# Altium schematic symbol library zxevo.SchLib: 57 symbols
Pins are listed as number, name and electrical type; pins without a type are passive.

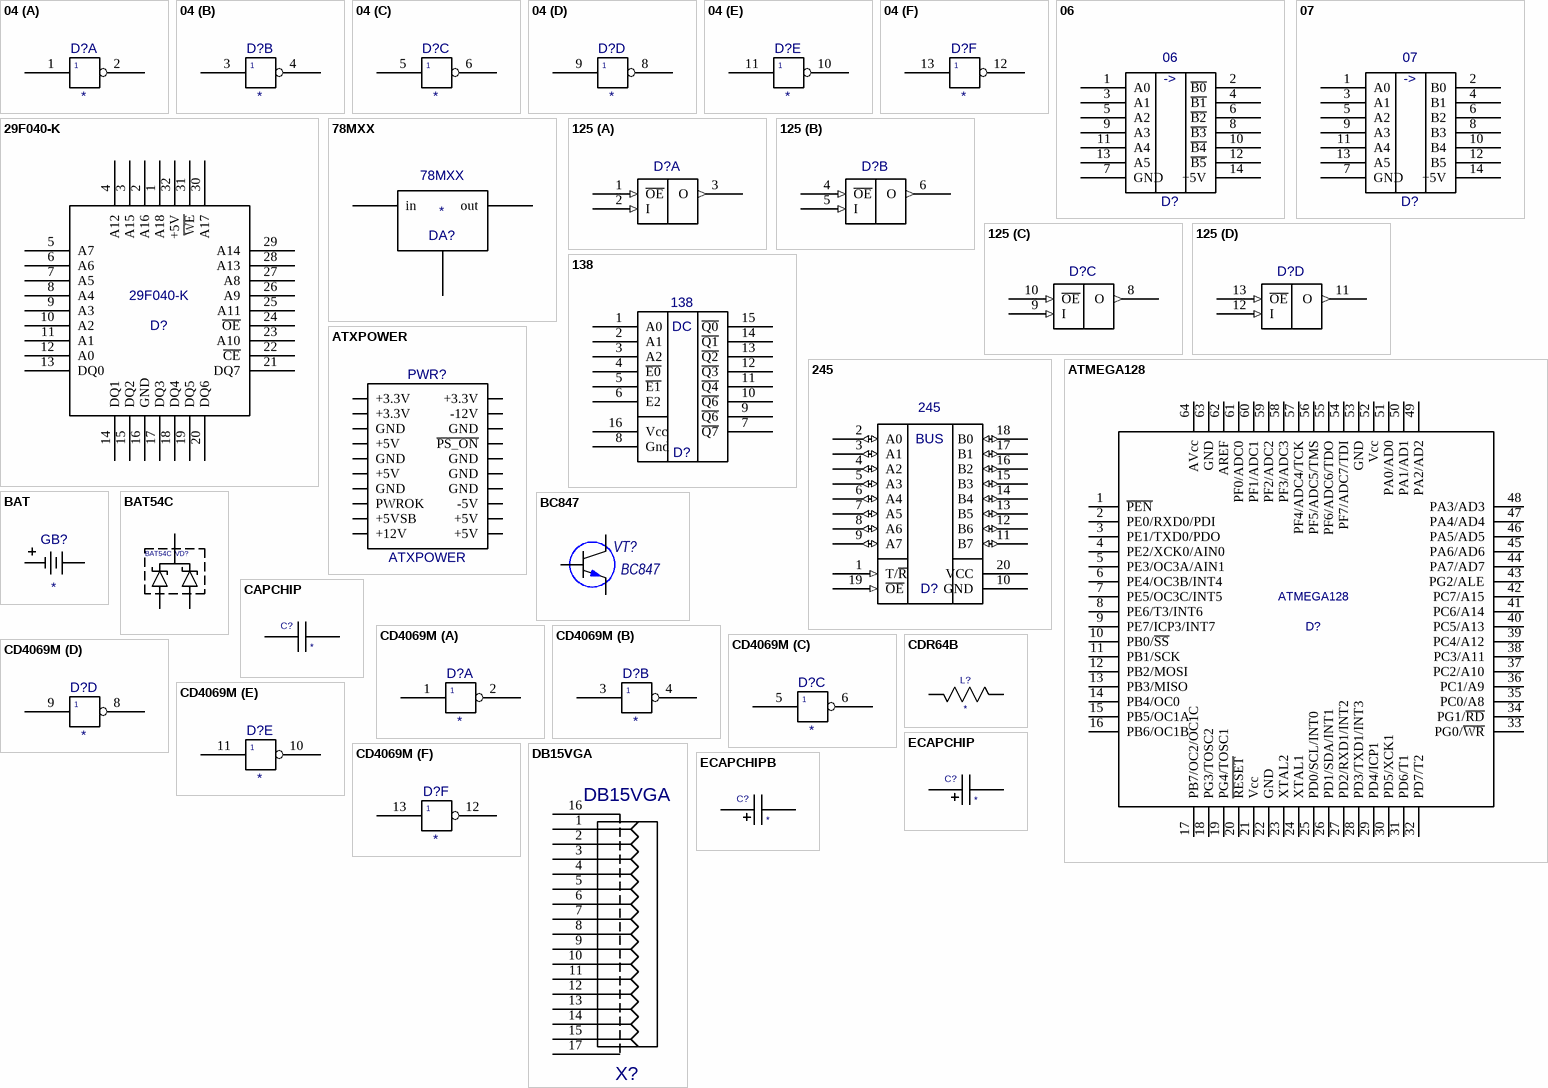
[diagram p0: symbols 04 to ECAPCHIPB]

## 04
designator D?  (value not drawn)
Value: *
footprint SO14
pins on every part: 7 GND (power) hidden, 14 +5v (power) hidden
part A pins: 1, 2
part B pins: 3, 4
part C pins: 5, 6
part D pins: 8, 9
part E pins: 10, 11
part F pins: 12, 13

## 06
designator D?
Value: *
footprint SO14
pins: 1 A0, 2 ~{B0}, 3 A1, 4 ~{B1}, 5 A2, 6 ~{B2}, 7 GND, 8 ~{B3}, 9 A3, 10 ~{B4}, 11 A4, 12 ~{B5}, 13 A5, 14 +5V
text: ->

## 07
designator D?
Value: *
footprint SO14
pins: 1 A0, 2 B0, 3 A1, 4 B1, 5 A2, 6 B2, 7 GND, 8 B3, 9 A3, 10 B4, 11 A4, 12 B5, 13 A5, 14 +5V
text: ->

## 29F040-K
designator D?
Value: *
footprint PLCC32
pins: 1 A18, 2 A16, 3 A15, 4 A12, 5 A7, 6 A6, 7 A5, 8 A4, 9 A3, 10 A2, 11 A1, 12 A0, 13 DQ0, 14 DQ1, 15 DQ2, 16 GND, 17 DQ3, 18 DQ4, 19 DQ5, 20 DQ6, 21 DQ7, 22 ~{CE}, 23 A10, 24 ~{OE}, 25 A11, 26 A9, 27 A8, 28 A13, 29 A14, 30 A17, 31 ~{WE}, 32 +5V

## 78MXX
designator DA?
Value: *
footprint DPAK
pins: 1 in, 2, 3 out

## 125
designator D?  (value not drawn)
Value: *
footprint SO14
pins on every part: 7 GND (power) hidden, 14 +5v (power) hidden
part A pins: 1 ~{OE} (in), 2 I (in), 3 O (out)
part B pins: 4 ~{OE} (in), 5 I (in), 6 O (out)
part C pins: 8 O (out), 9 I (in), 10 ~{OE} (in)
part D pins: 11 O (out), 12 I (in), 13 ~{OE} (in)

## 138
designator D?
Value: *
footprint SO16
pins: 1 A0, 2 A1, 3 A2, 4 ~{E0}, 5 ~{E1}, 6 E2, 7 ~{Q7}, 8 Gnd, 9 ~{Q6}, 10 ~{Q6}, 11 ~{Q4}, 12 ~{Q3}, 13 ~{Q2}, 14 ~{Q1}, 15 ~{Q0}, 16 Vcc
text: DC

## 245
designator D?
Value: *
footprint SOL20
pins: 1 T/~{R} (in), 2 A0 (io), 3 A1 (io), 4 A2 (io), 5 A3 (io), 6 A4 (io), 7 A5 (io), 8 A6 (io), 9 A7 (io), 10 GND (power), 11 B7 (io), 12 B6 (io), 13 B5 (io), 14 B4 (io), 15 B3 (io), 16 B2 (io), 17 B1 (io), 18 B0 (io), 19 ~{OE} (in), 20 VCC (power)
text: BUS

## ATMEGA128
designator D?
Value: *
footprint TQFP64X8
pins: 1 ~{PEN}, 2 PE0/RXD0/PDI, 3 PE1/TXD0/PDO, 4 PE2/XCK0/AIN0, 5 PE3/OC3A/AIN1, 6 PE4/OC3B/INT4, 7 PE5/OC3C/INT5, 8 PE6/T3/INT6, 9 PE7/ICP3/INT7, 10 PB0/~{SS}, 11 PB1/SCK, 12 PB2/MOSI, 13 PB3/MISO, 14 PB4/OC0, 15 PB5/OC1A, 16 PB6/OC1B, 17 PB7/OC2/OC1C, 18 PG3/TOSC2, 19 PG4/TOSC1, 20 ~{RESET}, 21 Vcc, 22 GND, 23 XTAL2, 24 XTAL1, 25 PD0/SCL/INT0, 26 PD1/SDA/INT1, 27 PD2/RXD1/INT2, 28 PD3/TXD1/INT3, 29 PD4/ICP1, 30 PD5/XCK1, 31 PD6/T1, 32 PD7/T2, 33 PG0/~{WR}, 34 PG1/~{RD}, 35 PC0/A8, 36 PC1/A9, 37 PC2/A10, 38 PC3/A11, 39 PC4/A12, 40 PC5/A13, 41 PC6/A14, 42 PC7/A15, 43 PG2/ALE, 44 PA7/AD7, 45 PA6/AD6, 46 PA5/AD5, 47 PA4/AD4, 48 PA3/AD3, 49 PA2/AD2, 50 PA1/AD1, 51 PA0/AD0, 52 Vcc, 53 GND, 54 PF7/ADC7/TDI, 55 PF6/ADC6/TDO, 56 PF5/ADC5/TMS, 57 PF4/ADC4/TCK, 58 PF3/ADC3, 59 PF2/ADC2, 60 PF1/ADC1, 61 PF0/ADC0, 62 AREF, 63 GND, 64 AVcc

## ATXPOWER
designator PWR?
Manufacturer: TE; Model: 2-1775099-7; Value: *
footprint ATXPOWER
pins: 1 +3.3V, 2 +3.3V, 3 GND, 4 +5V, 5 GND, 6 +5V, 7 GND, 8 PWROK, 9 +5VSB, 10 +12V, 11 +3.3V, 12 -12V, 13 GND, 14 ~{PS_ON}, 15 GND, 16 GND, 17 GND, 18 -5V, 19 +5V, 20 +5V

## BAT
designator GB?  (value not drawn)
Value: *
footprint BAT
pins: 1 PLUS, 2 MINUS

## BAT54C
designator VD?
Value: *
footprint SOT-23
pins: 1, 2, 3

## BC847
designator VT?
Value: *
footprint SOT-23
pins: 1 base, 2 emitter, 3 collector

## CAPCHIP
designator C?  (value not drawn)
Value: *
footprint C-CHIP
pins: 1, 2

## CD4069M
designator D?  (value not drawn)
Value: *
footprint SO14
pins on every part: 7 GND (power) hidden, 14 +5v (power) hidden
part A pins: 1, 2
part B pins: 3, 4
part C pins: 5, 6
part D pins: 8, 9
part E pins: 10, 11
part F pins: 12, 13

## CDR64B
designator L?  (value not drawn)
Value: *
footprint CDR64B
pins: 1, 2

## DB15VGA
designator X?
Value: *
footprint DB15VGA
pins: 1, 2, 3, 4, 5, 6, 7, 8, 9, 10, 11, 12, 13, 14, 15, 16, 17

## ECAPCHIP
designator C?  (value not drawn)
Value: *
footprint EC-CHIP
pins: 1, 2

## ECAPCHIPB
designator C?  (value not drawn)
Value: *
footprint EC-CHIPB
pins: 1, 2

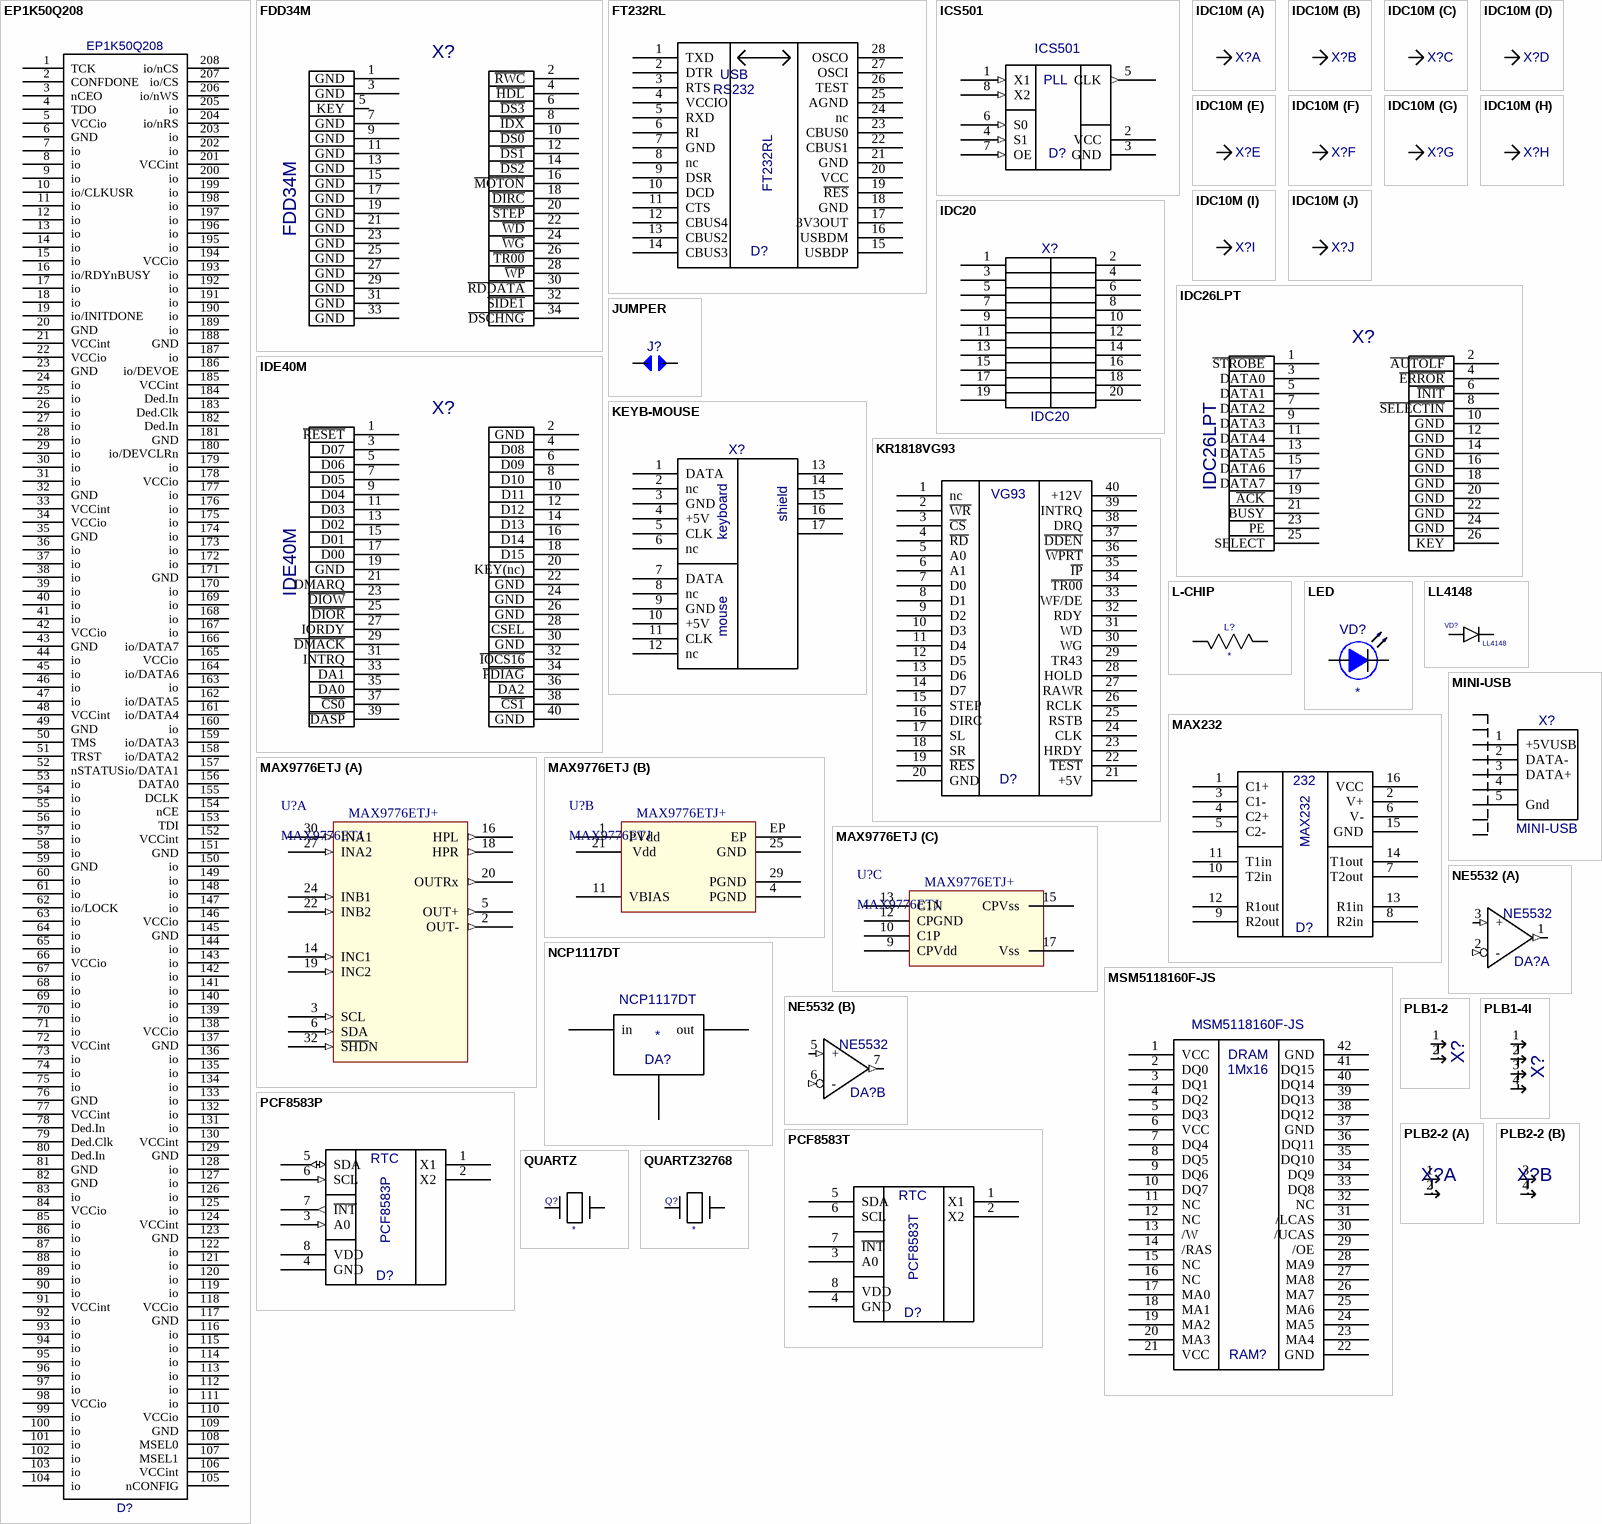
[diagram p1: symbols EP1K50Q208 to QUARTZ32768]

## EP1K50Q208
designator D?
Value: *
footprint PQFP208X5
pins: 1 TCK, 2 CONFDONE, 3 nCEO, 4 TDO, 5 VCCio, 6 GND, 7 io, 8 io, 9 io, 10 io/CLKUSR, 11 io, 12 io, 13 io, 14 io, 15 io, 16 io/RDYnBUSY, 17 io, 18 io, 19 io/INITDONE, 20 GND, 21 VCCint, 22 VCCio, 23 GND, 24 io, 25 io, 26 io, 27 io, 28 io, 29 io, 30 io, 31 io, 32 GND, 33 VCCint, 34 VCCio, 35 GND, 36 io, 37 io, 38 io, 39 io, 40 io, 41 io, 42 VCCio, 43 GND, 44 io, 45 io, 46 io, 47 io, 48 VCCint, 49 GND, 50 TMS, 51 TRST, 52 nSTATUS, 53 io, 54 io, 55 io, 56 io, 57 io, 58 io, 59 GND, 60 io, 61 io, 62 io/LOCK, 63 io, 64 io, 65 io, 66 VCCio, 67 io, 68 io, 69 io, 70 io, 71 io, 72 VCCint, 73 io, 74 io, 75 io, 76 GND, 77 VCCint, 78 Ded.In, 79 Ded.Clk, 80 Ded.In, 81 GND, 82 GND, 83 io, 84 VCCio, 85 io, 86 io, 87 io, 88 io, 89 io, 90 io, 91 VCCint, 92 io, 93 io, 94 io, 95 io, 96 io, 97 io, 98 VCCio, 99 io, 100 io, 101 io, 102 io, 103 io, 104 io, 105 nCONFIG, 106 VCCint, 107 MSEL1, 108 MSEL0, 109 GND, 110 VCCio, 111 io, 112 io, 113 io, 114 io, 115 io, 116 io, 117 GND, 118 VCCio, 119 io, 120 io, 121 io, 122 io, 123 GND, 124 VCCint, 125 io, 126 io, 127 io, 128 io, 129 GND, 130 VCCint, 131 io, 132 io, 133 io, 134 io, 135 io, 136 io, 137 GND, 138 VCCio, 139 io, 140 io, 141 io, 142 io, 143 io, 144 io, 145 GND, 146 VCCio, 147 io, 148 io, 149 io, 150 io, 151 GND, 152 VCCint, 153 TDI, 154 nCE, 155 DCLK, 156 DATA0, 157 io/DATA1, 158 io/DATA2, 159 io/DATA3, 160 io, 161 io/DATA4, 162 io/DATA5, 163 io, 164 io/DATA6, 165 VCCio, 166 io/DATA7, 167 io, 168 io, 169 io, 170 io, 171 GND, 172 io, 173 io, 174 io, 175 io, 176 io, 177 io, 178 VCCio, 179 io, 180 io/DEVCLRn, 181 GND, 182 Ded.In, 183 Ded.Clk, 184 Ded.In, 185 VCCint, 186 io/DEVOE, 187 io, 188 GND, 189 io, 190 io, 191 io, 192 io, 193 io, 194 VCCio, 195 io, 196 io, 197 io, 198 io, 199 io, 200 io, 201 VCCint, 202 io, 203 io, 204 io/nRS, 205 io, 206 io/nWS, 207 io/CS, 208 io/nCS

## FDD34M
designator X?
Value: *
footprint FDD34M
pins: 1 GND, 2 ~{RWC}, 3 GND, 4 ~{HDL}, 5 KEY, 6 ~{DS3}, 7 GND, 8 ~{IDX}, 9 GND, 10 ~{DS0}, 11 GND, 12 ~{DS1}, 13 GND, 14 ~{DS2}, 15 GND, 16 ~{MOTON}, 17 GND, 18 ~{DIRC}, 19 GND, 20 ~{STEP}, 21 GND, 22 ~{WD}, 23 GND, 24 ~{WG}, 25 GND, 26 ~{TR00}, 27 GND, 28 ~{WP}, 29 GND, 30 ~{RDDATA}, 31 GND, 32 ~{SIDE1}, 33 GND, 34 ~{DSCHNG}

## FT232RL
designator D?
Value: *
footprint SSOP28
pins: 1 TXD, 2 DTR, 3 RTS, 4 VCCIO, 5 RXD, 6 RI, 7 GND, 8 nc, 9 DSR, 10 DCD, 11 CTS, 12 CBUS4, 13 CBUS2, 14 CBUS3, 15 USBDP, 16 USBDM, 17 3V3OUT, 18 GND, 19 ~{RES}, 20 VCC, 21 GND, 22 CBUS1, 23 CBUS0, 24 nc, 25 AGND, 26 TEST, 27 OSCI, 28 OSCO
text: USB; RS232

## ICS501
designator D?
Value: *
footprint SO8
pins: 1 X1 (in), 2 VCC (power), 3 GND (power), 4 S1 (in), 5 CLK (out), 6 S0 (in), 7 OE (in), 8 X2 (in)
text: PLL

## IDC10M
designator X?  (value not drawn)
Value: *
footprint IDC10M
part A pins: 1
part B pins: 2
part C pins: 3
part D pins: 4
part E pins: 5
part F pins: 6
part G pins: 7
part H pins: 8
part I pins: 9
part J pins: 10

## IDC20
designator X?
Value: *
footprint IDC20
pins: 1, 2, 3, 4, 5, 6, 7, 8, 9, 10, 11, 12, 13, 14, 15, 16, 17, 18, 19, 20

## IDC26LPT
designator X?
Value: *
footprint IDC26
pins: 1 ~{STROBE}, 2 ~{AUTOLF}, 3 DATA0, 4 ~{ERROR}, 5 DATA1, 6 ~{INIT}, 7 DATA2, 8 ~{SELECTIN}, 9 DATA3, 10 GND, 11 DATA4, 12 GND, 13 DATA5, 14 GND, 15 DATA6, 16 GND, 17 DATA7, 18 GND, 19 ~{ACK}, 20 GND, 21 BUSY, 22 GND, 23 PE, 24 GND, 25 SELECT, 26 KEY

## IDE40M
designator X?
Value: *
footprint IDE40M
pins: 1 ~{RESET}, 2 GND, 3 D07, 4 D08, 5 D06, 6 D09, 7 D05, 8 D10, 9 D04, 10 D11, 11 D03, 12 D12, 13 D02, 14 D13, 15 D01, 16 D14, 17 D00, 18 D15, 19 GND, 20 KEY(nc), 21 DMARQ, 22 GND, 23 ~{DIOW}, 24 GND, 25 ~{DIOR}, 26 GND, 27 IORDY, 28 CSEL, 29 ~{DMACK}, 30 GND, 31 INTRQ, 32 ~{IOCS16}, 33 DA1, 34 ~{PDIAG}, 35 DA0, 36 DA2, 37 ~{CS0}, 38 ~{CS1}, 39 ~{DASP}, 40 GND

## JUMPER
designator J?  (value not drawn)
enable IDERES; Value: *
footprint JUMPER
pins: 0 1, 1 2

## KEYB-MOUSE
designator X?  (value not drawn)
Value: *
footprint MDD-6FR
pins: 1 DATA, 2 nc, 3 GND, 4 +5V, 5 CLK, 6 nc, 7 DATA, 8 nc, 9 GND, 10 +5V, 11 CLK, 12 nc, 13 shield, 14 shield, 15 shield, 16 shield, 17 shield
text: keyboard; mouse

## KR1818VG93
designator D?  (value not drawn)
Value: *
footprint DIP40
pins: 1 nc, 2 ~{WR}, 3 ~{CS}, 4 ~{RD}, 5 A0, 6 A1, 7 D0, 8 D1, 9 D2, 10 D3, 11 D4, 12 D5, 13 D6, 14 D7, 15 STEP, 16 DIRC, 17 SL, 18 SR, 19 ~{RES}, 20 GND, 21 +5V, 22 ~{TEST}, 23 HRDY, 24 CLK, 25 RSTB, 26 RCLK, 27 RAWR, 28 HOLD, 29 TR43, 30 WG, 31 WD, 32 RDY, 33 WF/DE, 34 ~{TR00}, 35 ~{IP}, 36 ~{WPRT}, 37 ~{DDEN}, 38 DRQ, 39 INTRQ, 40 +12V
text: VG93

## L-CHIP
designator L?  (value not drawn)
Value: *
footprint L-CHIP
pins: 1, 2

## LED
designator VD?  (value not drawn)
Value: *
footprint LED100
pins: A, K

## LL4148
designator VD?
Value: *
footprint LL4148
pins: 1 A, 2 C

## MAX232
designator D?
Value: *
footprint SO16
pins: 1 C1+, 2 V+, 3 C1-, 4 C2+, 5 C2-, 6 V-, 7 T2out, 8 R2in, 9 R2out, 10 T2in, 11 T1in, 12 R1out, 13 R1in, 14 T1out, 15 GND, 16 VCC
text: 232

## MAX9776ETJ
designator U?  Supplier Part Number 1: MAX9776ETJ+
Audio Amp Headphone/Receiver/Speaker 1-CH Mono/2-CH Stereo 1.5W Class-D 32-Pin TQFN EP; Manufacturer: Maxim; Voltage Gain: 12dB; Min Dual Supply Voltage: 2.7V; Max Dual Supply Voltage: 5.5V; Power Supply Rejection Ratio (PSRR): 80dB; Common Mode Rejection Ratio: 45dB; Max Power Dissipation: 1.36W; Nominal Supply Current: 9.5mA; Dual Supply Voltage: 5V; Supply Type: Triple; Gain Bandwidth Product: 20kHz; Manufacturer Part Number: MAX9776ETJ+; RoHS: Yes; Category: Amplifiers - Audio; Stock 1: 240; Mount: Surface Mount; Number of Pins: 32; Min Operating Temperature: -40°C; Max Operating Temperature: 85°C; Packaging: Rail/Tube; Max Output Power: 1.5W; Package Quantity: 1; Logic Function: Receiver; Features: I²C; Output Power: 1.5W; Max Supply Voltage: 5.5V; Min Supply Voltage: 2.7V; Series: DirectDrive®; Supply Current: 9.5mA; Length: 5.1mm; Width: 5.1mm; Height: 0.75mm; Radiation Hardening: No; RoHS Compliant: Yes; ComponentLink1URL: https://datasheet.ciiva.com/1790/max9775-max9776-1790309.pdf?src-supplier=Digi-Key; ComponentLink1Description: https://datasheet.ciiva.com/1790/max9775-max9776-1790309.pdf?src-supplier=Digi-Key; ComponentLink2URL: https://datasheet.ciiva.com/17309/max9775-max9776-17309659.pdf?src-supplier=Avnet+Europe; ComponentLink2Description: https://datasheet.ciiva.com/17309/max9775-max9776-17309659.pdf?src-supplier=Avnet+Europe; ComponentLink3URL: https://datasheet.ciiva.com/2967/max9775-max9776-2967997.pdf?src-supplier=Avnet; ComponentLink3Description: https://datasheet.ciiva.com/2967/max9775-max9776-2967997.pdf?src-supplier=Avnet
footprint QFN50P500X500X75_HS-33M (QFN, 32-Leads, Body 5,00x5,00mm, Pitch 0,50mm, Thermal Pad 3,10x3,10mm, IPC Low Density)
part A pins: 2  OUT- (out) "Negative Left-Speaker Output", 3 SCL (in) "Serial Clock Input. Connect a 1kΩ pullup resistor from SCL to VDD.", 5  OUT+ (out) "Positive Left-Speaker Output", 6 SDA (in) "Serial Data Input. Connect a 1kΩ pullup resistor from SDA to VDD.", 7 I.C. hidden "Internal Connection. Leave unconnected. This pin is internally connected to the signal path.", 8 I.C. hidden "Internal Connection. Leave unconnected. This pin is internally connected to the signal path.", 14 INC1 (in) "Input C1. Left input or positive input", 16 HPL (out) "Left Headphone Output", 18 HPR (out) "Right Headphone Output", 19 INC2 (in) "Input C2. Right input or negative input", 20 OUTRx (out) "Mono Receiver Output", 22 INB2 (in) "Input B2. Right input or negative input", 23 I.C. hidden "Internal Connection. Leave unconnected. This pin is internally connected to the signal path.", 24 INB1 (in) "Input B1. Left input or positive input", 26 I.C. hidden "Internal Connection. Leave unconnected. This pin is internally connected to the signal path.", 27 INA2 (in) "Input A2. Right input or negative input", 28 I.C. hidden "Internal Connection. Leave unconnected. This pin is internally connected to the signal path.", 30 INA1 (in) "Input A1. Left input or positive input", 31 I.C. hidden "Internal Connection. Leave unconnected. This pin is internally connected to the signal path.", 32 ~{SHD}N (in) "Active-Low Hardware Shutdown"
part B pins: 1 PVdd (power) "Class D Power Supply", 4 PGND (power) "Power Ground", 11 VBIAS (power) "Common-Mode Bias", 21  Vdd (power) "Analog Power Supply", 25 GND (power) "Analog Ground", 29 PGND (power) "Power Ground", EP (power) "Exposed Pad. The external pad lowers the package’s thermal impedance by providing a direct heat conduction path from the die to the PCB. The exposed pad is internally connected to GND. Connect the exposed thermal pad to the GND plane."
part C pins: 9 CPVdd (power) "Charge-Pump Power Supply", 10 C1P (power) "Charge-Pump Flying Capacitor Positive Terminal", 12 CPGND (power) "Charge-Pump GND", 13 C1N (power) "Charge-Pump Flying Capacitor Negative Terminal", 15 CPVss (power) "Charge-Pump Output. Connect to VSS.", 17 Vss (power) "Headphone Amplifier Negative Power Supply. Connect to CPVSS."

## MINI-USB
designator X?
Value: *
footprint MINI-USB
pins: 1 +5VUSB, 2 DATA-, 3 DATA+, 4, 5 Gnd, 6, 7, 8, 9

## MSM5118160F-JS
designator RAM?
Value: *
footprint SOJ42
pins: 1 VCC, 2 DQ0, 3 DQ1, 4 DQ2, 5 DQ3, 6 VCC, 7 DQ4, 8 DQ5, 9 DQ6, 10 DQ7, 11 NC, 12 NC, 13 /W, 14 /RAS, 15 NC, 16 NC, 17 MA0, 18 MA1, 19 MA2, 20 MA3, 21 VCC, 22 GND, 23 MA4, 24 MA5, 25 MA6, 26 MA7, 27 MA8, 28 MA9, 29 /OE, 30 /UCAS, 31 /LCAS, 32 NC, 33 DQ8, 34 DQ9, 35 DQ10, 36 DQ11, 37 GND, 38 DQ12, 39 DQ13, 40 DQ14, 41 DQ15, 42 GND
text: DRAM; 1Mx16

## NCP1117DT
designator DA?
Value: *
footprint DPAK
pins: 1, 2 out, 3 in

## NE5532
designator DA?
Value: *
footprint SO8
pins on every part: 4 GND (power) hidden, 8 VCCA (power) hidden
part A pins: 1 OUT (out), 2 - (in), 3 + (in)
part B pins: 5 + (in), 6 - (in), 7 OUT (out)

## PCF8583P
designator D?
Value: *
footprint DIP8
pins: 1 X1, 2 X2, 3 A0 (in), 4 GND (power), 5 SDA (io), 6 SCL (in), 7 ~{INT} (out), 8 VDD (power)
text: RTC

## PCF8583T
designator D?
Value: *
footprint PCF8583T
pins: 1 X1, 2 X2, 3 A0, 4 GND, 5 SDA, 6 SCL, 7 ~{INT}, 8 VDD
text: RTC

## PLB1-2
designator X?  (value not drawn)
Value: *
footprint PLB1-2
pins: 1, 2

## PLB1-4I
designator X?  (value not drawn)
Value: *
footprint PLB1-4I
pins: 1 I/O1, 2 I/O2, 3 I/O3, 4 I/O4

## PLB2-2
designator X?  (value not drawn)
Value: *
footprint PLB2-2
part A pins: 1, 2
part B pins: 3 1, 4 2

## QUARTZ
designator Q?  (value not drawn)
Value: *
footprint CRYSTAL
pins: A, B

## QUARTZ32768
designator Q?  (value not drawn)
Value: *
footprint 32768
pins: 1, 2, 3 GND (power) hidden

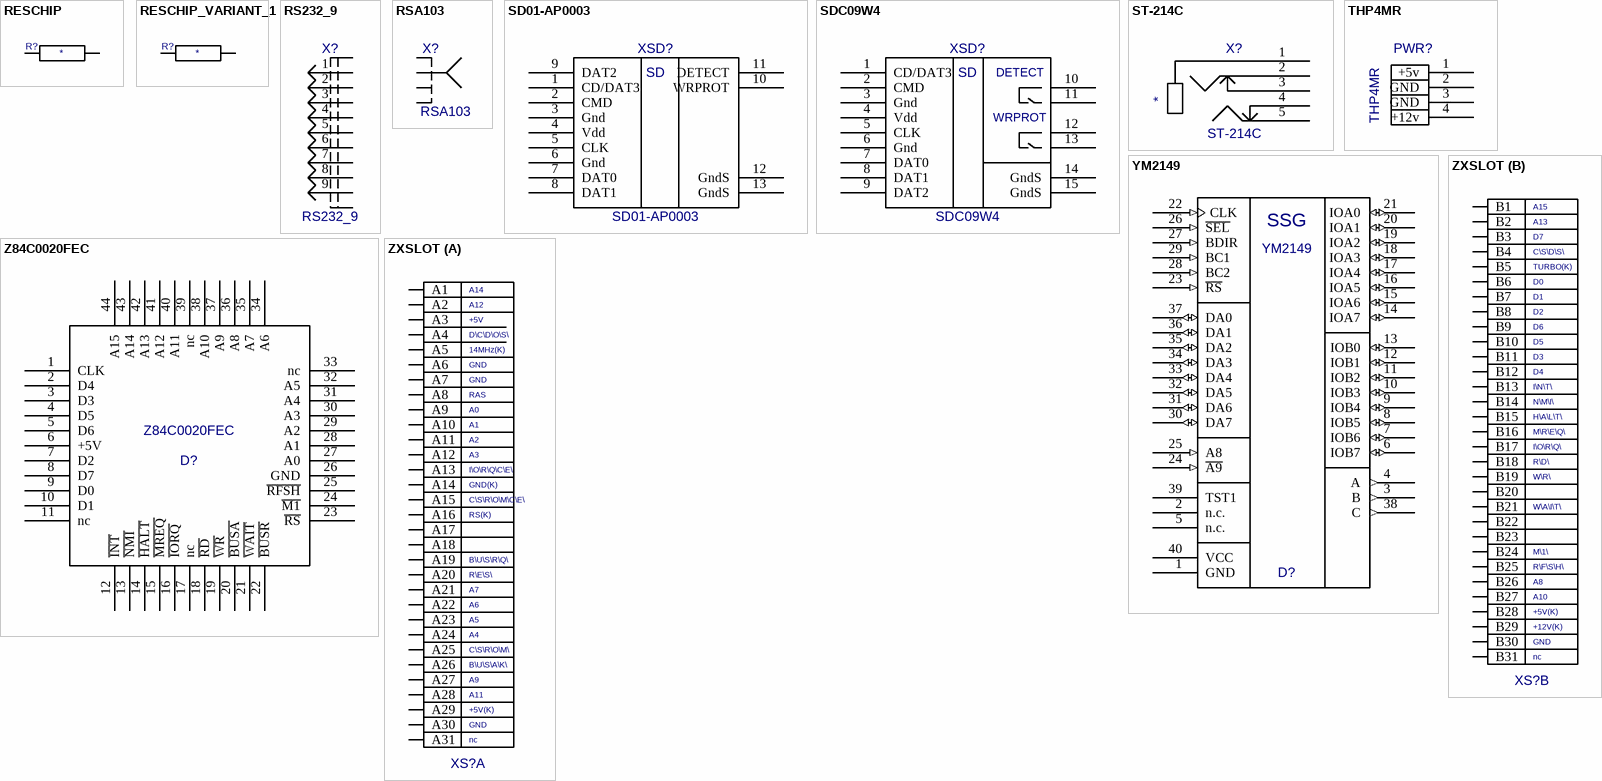
[diagram p2: symbols RESCHIP to ZXSLOT]

## RESCHIP
designator R?  (value not drawn)
Value: *
footprint R-CHIP
pins: 1 i/o, 2 i/o1

## RESCHIP_VARIANT_1
designator R?, comment RESCHIP  (value not drawn)
RESCHIP_VARIANT_1; Value: *
footprint R-CHIP
pins: 1 i/o, 2 i/o1

## RS232_9
designator X?
Value: *
footprint DSUB-9
pins: 1, 2, 3, 4, 5, 6, 7, 8, 9, 10, 11

## RSA103
designator X?
Value: *
footprint RSA103
pins: 1, 2, 3, 4

## SD01-AP0003
designator XSD?
Value: *
footprint SD01-AP0003
pins: 1 CD/DAT3, 2 CMD, 3 Gnd, 4 Vdd, 5 CLK, 6 Gnd, 7 DAT0, 8 DAT1, 9 DAT2, 10 WRPROT, 11 DETECT, 12 GndS, 13 GndS, 14 hidden, 15 hidden
text: SD

## SDC09W4
designator XSD?
Value: *
footprint SDC09W4
pins: 1 CD/DAT3, 2 CMD, 3 Gnd, 4 Vdd, 5 CLK, 6 Gnd, 7 DAT0, 8 DAT1, 9 DAT2, 10 DETECT, 11 DETECT, 12 WRPROT, 13 WRPROT, 14 GndS, 15 GndS
text: SD

## ST-214C
designator X?
Value: *
footprint ST-214C
pins: 1, 2, 3, 4, 5

## THP4MR
designator PWR?
Value: *
footprint THP_4MR
pins: 1 +5v, 2 GND, 3 GND, 4 +12v

## YM2149
designator D?
Value: *
footprint DIP40
pins: 1 GND (power), 2 n.c., 3 B (out), 4 A (out), 5 n.c., 6 IOB7 (io), 7 IOB6 (io), 8 IOB5 (io), 9 IOB4 (io), 10 IOB3 (io), 11 IOB2 (io), 12 IOB1 (io), 13 IOB0 (io), 14 IOA7 (io), 15 IOA6 (io), 16 IOA5 (io), 17 IOA4 (io), 18 IOA3 (io), 19 IOA2 (io), 20 IOA1 (io), 21 IOA0 (io), 22 CLK (in), 23 ~{RS} (in), 24 ~{A9} (in), 25 A8 (in), 26 ~{SEL} (in), 27 BDIR (in), 28 BC2 (in), 29 BC1 (in), 30 DA7 (io), 31 DA6 (io), 32 DA5 (io), 33 DA4 (io), 34 DA3 (io), 35 DA2 (io), 36 DA1 (io), 37 DA0 (io), 38 C (out), 39 TST1, 40 VCC (power)
text: SSG

## Z84C0020FEC
designator D?
Value: *
footprint QFP44X8
pins: 1 CLK, 2 D4, 3 D3, 4 D5, 5 D6, 6 +5V, 7 D2, 8 D7, 9 D0, 10 D1, 11 nc, 12 ~{INT}, 13 ~{NMI}, 14 ~{HALT}, 15 ~{MREQ}, 16 ~{IORQ}, 17 nc, 18 ~{RD}, 19 ~{WR}, 20 ~{BUSA}, 21 ~{WAIT}, 22 ~{BUSR}, 23 ~{RS}, 24 ~{M1}, 25 ~{RFSH}, 26 GND, 27 A0, 28 A1, 29 A2, 30 A3, 31 A4, 32 A5, 33 nc, 34 A6, 35 A7, 36 A8, 37 A9, 38 A10, 39 nc, 40 A11, 41 A12, 42 A13, 43 A14, 44 A15

## ZXSLOT
designator XS?  (value not drawn)
Value: *
footprint SLOT62
part A pins: A1, A2, A3, A4, A5, A6, A7, A8, A9, A10, A11, A12, A13, A14, A15, A16, A17, A18, A19, A20, A21, A22, A23, A24, A25, A26, A27, A28, A29, A30, A31
part B pins: B1, B2, B3, B4, B5, B6, B7, B8, B9, B10, B11, B12, B13, B14, B15, B16, B17, B18, B19, B20, B21, B22, B23, B24, B25, B26, B27, B28, B29, B30, B31
part A text: +5V; D\C\D\O\S\; 14MHz(K); GND; RAS; A0; I\O\R\Q\C\E\; GND(K); C\S\R\O\M\C\E\; RS(K); B\U\S\R\Q\; R\E\S\; C\S\R\O\M\; B\U\S\A\K\; +5V(K); nc
part B text: D7; C\S\D\S\; TURBO(K); D0; D1; D2; D6; D5; D3; D4; I\N\T\; N\M\I\; H\A\L\T\; M\R\E\Q\; I\O\R\Q\; R\D\; W\R\; W\A\I\T\; M\1\; R\F\S\H\; +5V(K); +12V(K); GND; nc